# Altium schematic symbol library Mtg_Hole-156_P.SchLib: 1 symbol
Pins are listed as number, name and electrical type; pins without a type are passive.

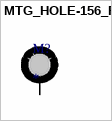
[diagram p0: symbol MTG_HOLE-156_P]

## MTG_HOLE-156_P
designator M?
pins: 0